# EAGLE library part PIN-HEADER-7PIN (library stutz-eagle)
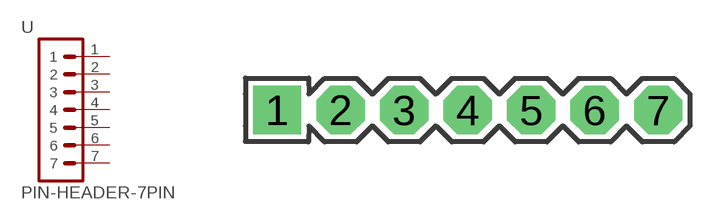
[diagram p23: symbol with the pads of PIN-HEADER-7PIN; footprint PIN-HEADER-7PIN]

Designator prefix -

## PIN-HEADER-7PIN  [PIN-HEADER-7PIN]
1  1  pas
2  2  pas
3  3  pas
4  4  pas
5  5  pas
6  6  pas
7  7  pas

## Footprint PIN-HEADER-7PIN (pad centres in mm)
drill 1.016 pad 1.93 square: 1 -7.62,0
drill 1.016 pad 1.93 octagon: 2 -5.08,0; 3 -2.54,0; 4 0,0; 5 2.54,0; 6 5.08,0; 7 7.62,0